# Altium footprint library Inductor_SMD_Wurth.PcbLib: 4 footprints
Each footprint in its own frame and in the unit in brackets; x right, y up, seen from the top. Pads: shape width x height; smd on the part's side, far side on the other; paste and mask are expansions set on the pad; w line width, h text height; cw(c..) or ccw(c..) is an arc to the next point about the centre after c.
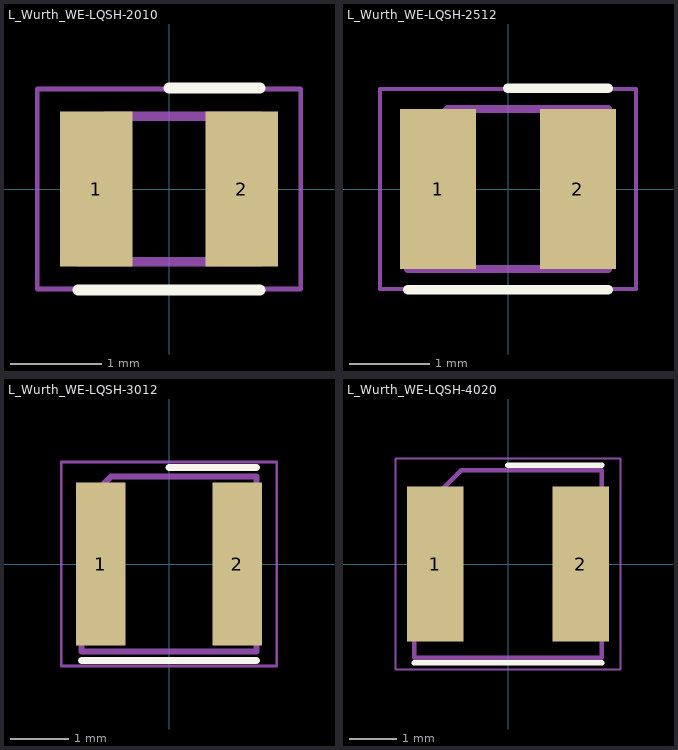
[diagram p0: the footprints below, top view; thin cyan lines are the x and y axes]

## L_Wurth_WE-LQSH-2010 [mm]
pads (2):
  rect 0.8x1.7 smd: 1(-0.8,0) 2(0.8,0)
F.SilkS:
  lines w0.12: -1,-1.11 1,-1.11 ; 0,1.11 1,1.11
F.CrtYd:
  lines w0.05: -1.45,-1.1 -1.45,1.1 1.45,1.1 1.45,-1.1 -1.45,-1.1
F.Fab:
  lines w0.1: -1,-0.8 -1,0.5 -0.7,0.8 1,0.8 1,-0.8 -1,-0.8
  text "'.Designator'" at -2.023,-0.42 h0.5

## L_Wurth_WE-LQSH-2512 [mm]
pads (2):
  rect 0.95x2 smd: 1(-0.875,0) 2(0.875,0)
F.SilkS:
  lines w0.12: -1.25,-1.26 1.25,-1.26 ; 0,1.26 1.25,1.26
F.CrtYd:
  lines w0.05: -1.6,-1.25 -1.6,1.25 1.6,1.25 1.6,-1.25 -1.6,-1.25
F.Fab:
  lines w0.1: -1.25,-1 -1.25,0.5 -0.75,1 1.25,1 1.25,-1 -1.25,-1
  text "'.Designator'" at -2.023,-0.42 h0.5

## L_Wurth_WE-LQSH-3012 [mm]
pads (2):
  rect 0.85x2.8 smd: 1(-1.175,0) 2(1.175,0)
F.SilkS:
  lines w0.12: -1.5,-1.66 1.5,-1.66 ; 0,1.66 1.5,1.66
F.CrtYd:
  lines w0.05: -1.85,-1.75 -1.85,1.75 1.85,1.75 1.85,-1.75 -1.85,-1.75
F.Fab:
  lines w0.1: -1.5,-1.5 -1.5,1 -1,1.5 1.5,1.5 1.5,-1.5 -1.5,-1.5
  text "'.Designator'" at -2.023,-0.42 h0.5

## L_Wurth_WE-LQSH-4020 [mm]
pads (2):
  rect 1.2x3.3 smd: 1(-1.55,0) 2(1.55,0)
F.SilkS:
  lines w0.12: -2,-2.11 2,-2.11 ; 0,2.11 2,2.11
F.CrtYd:
  lines w0.05: -2.4,-2.25 -2.4,2.25 2.4,2.25 2.4,-2.25 -2.4,-2.25
F.Fab:
  lines w0.1: -2,-2 2,-2 2,2 -1,2 -2,1 -2,-2
  text "'.Designator'" at -2.023,-0.42 h0.5